# EAGLE library part CC3350ENJARSBR (library CC3350ENJARSBR)
Key Features Wi-Fi 6 (802.11ax) Bluetooth Low Energy 5.4 in CC33x1 devices Companion IC to any processor or MCU host capable of running a TCP/IP stack Integrated 2.4GHz and 5GHz PA for complete wireless solution with up to +20.5dBm output power. Operating temperature: 40C to +105C Application throughput up to 50Mbps Extended Features Wi-Fi 6 2.4GHz and 5GHz, 20MHz, single spatial stream MAC, baseband, and RF transceiver with support for IEEE 802.11 a/b/g/n/ax OFDMA, t Source: Datasheet <https://www.ti.com/lit/ds/symlink/cc3350.pdf?ts=1745530269962&ref_url=https%3A%2F%2Fwww.mouser.com%2F>
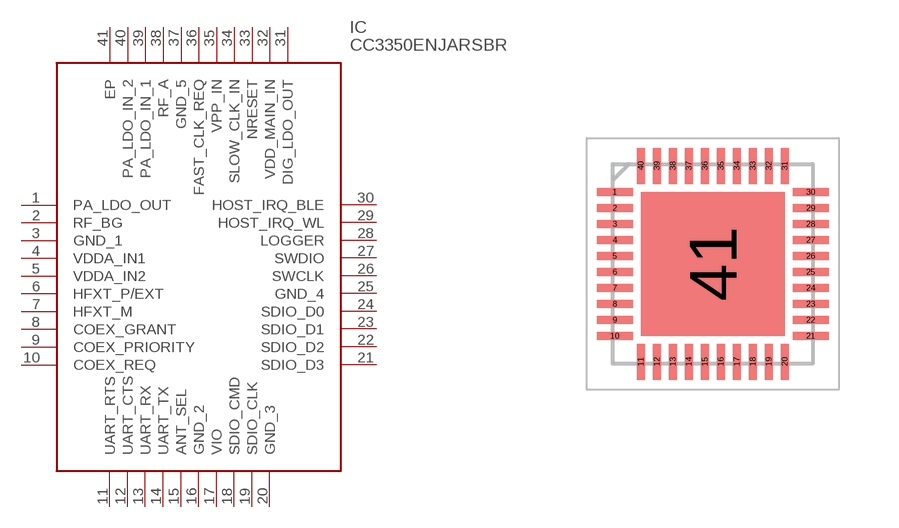
[diagram p0: symbol with the pads of QFN40P500X500X80-41N; footprint QFN40P500X500X80-41N]

Designator prefix IC

## CC3350ENJARSBR (Arrow_Part_Number: CC3350ENJARSBR; Arrow_Price-Stock: https://www.arrow.com/en/products/cc3350enjarsbr/texas-instruments?utm_currency=USD&region=nac; Description: Key Features Wi-Fi 6 (802.11ax) Bluetooth Low Energy 5.4 in CC33x1 devices Companion IC to any processor or MCU host capable of running a TCP/IP stack Integrated 2.4GHz and 5GHz PA for complete wireless solution with up to +20.5dBm output power. Operating temperature: 40C to +105C Application throughput up to 50Mbps Extended Features Wi-Fi 6 2.4GHz and 5GHz, 20MHz, single spatial stream MAC, baseband, and RF transceiver with support for IEEE 802.11 a/b/g/n/ax OFDMA, t; Height: 0.8mm; Manufacturer_Name: Texas Instruments; Manufacturer_Part_Number: CC3350ENJARSBR)  [QFN40P500X500X80-41N]
1  PA_LDO_OUT
2  RF_BG
3  GND_1
4  VDDA_IN1
5  VDDA_IN2
6  HFXT_P/EXT
7  HFXT_M
8  COEX_GRANT
9  COEX_PRIORITY
10  COEX_REQ
11  UART_RTS
12  UART_CTS
13  UART_RX
14  UART_TX
15  ANT_SEL
16  GND_2
17  VIO
18  SDIO_CMD
19  SDIO_CLK
20  GND_3
21  SDIO_D3
22  SDIO_D2
23  SDIO_D1
24  SDIO_D0
25  GND_4
26  SWCLK
27  SWDIO
28  LOGGER
29  HOST_IRQ_WL
30  HOST_IRQ_BLE
31  DIG_LDO_OUT
32  VDD_MAIN_IN
33  NRESET
34  SLOW_CLK_IN
35  VPP_IN
36  FAST_CLK_REQ
37  GND_5
38  RF_A
39  PA_LDO_IN_1
40  PA_LDO_IN_2
41  EP

## Footprint QFN40P500X500X80-41N (pad centres in mm)
WQFN 41 PINOUT
smd 0.9 x 0.2: 1 -2.45,1.8; 2 -2.45,1.4; 3 -2.45,1; 4 -2.45,0.6; 5 -2.45,0.2; 6 -2.45,-0.2; 7 -2.45,-0.6; 8 -2.45,-1; 9 -2.45,-1.4; 10 -2.45,-1.8; 21 2.45,-1.8; 22 2.45,-1.4; 23 2.45,-1; 24 2.45,-0.6; 25 2.45,-0.2; 26 2.45,0.2; 27 2.45,0.6; 28 2.45,1; 29 2.45,1.4; 30 2.45,1.8
smd 0.2 x 0.9: 11 -1.8,-2.45; 12 -1.4,-2.45; 13 -1,-2.45; 14 -0.6,-2.45; 15 -0.2,-2.45; 16 0.2,-2.45; 17 0.6,-2.45; 18 1,-2.45; 19 1.4,-2.45; 20 1.8,-2.45; 31 1.8,2.45; 32 1.4,2.45; 33 1,2.45; 34 0.6,2.45; 35 0.2,2.45; 36 -0.2,2.45; 37 -0.6,2.45; 38 -1,2.45; 39 -1.4,2.45; 40 -1.8,2.45
smd 3.6 x 3.6: 41 0,0